# EAGLE library part WIFI-WIZFI21X-LIMITED (library Module)
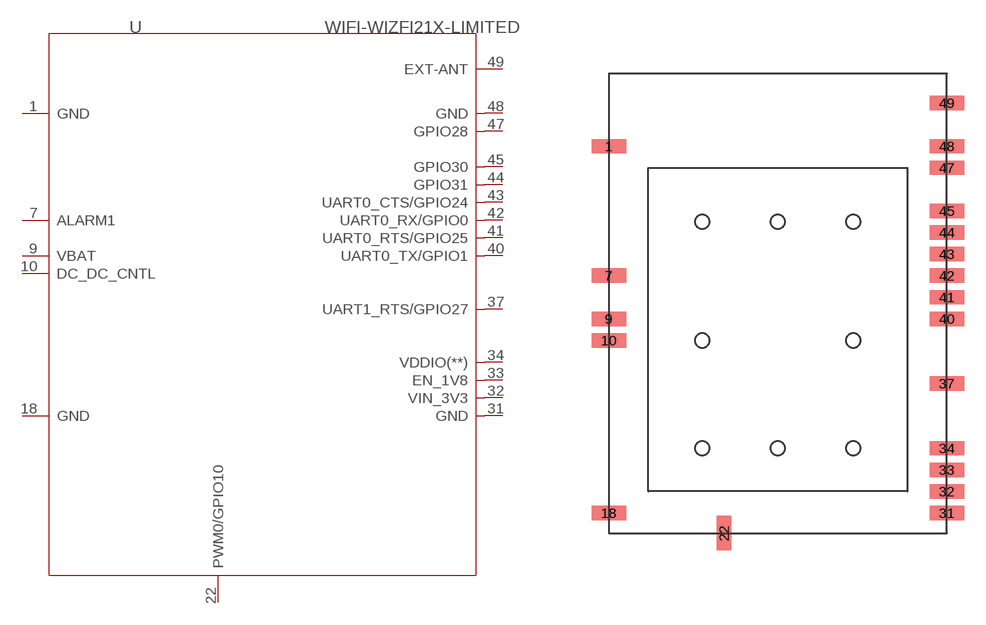
[diagram p18: symbol with the pads of 20P-SMD-32X23.5; footprint 20P-SMD-32X23.5]

Designator prefix U

## WIFI-WIZFI21X-LIMITED-WIXFI210  [20P-SMD-32X23.5]
1  GND  sup
7  ALARM1  in
9  VBAT  sup
10  DC_DC_CNTL  out
18  GND  sup
22  PWM0/GPIO10  out
31  GND  sup
32  VIN_3V3  sup
33  EN_1V8  in
34  VDDIO(**)  sup
37  UART1_RTS/GPIO27  out
40  UART0_TX/GPIO1  out
41  UART0_RTS/GPIO25  out
42  UART0_RX/GPIO0  in
43  UART0_CTS/GPIO24  in
44  GPIO31
45  GPIO30
47  GPIO28
48  GND  sup
49  EXT-ANT

## Footprint 20P-SMD-32X23.5 (pad centres in mm)
smd 2.4 x 1: 1 -11.75,13.5; 7 -11.75,4.5; 9 -11.75,1.5; 10 -11.75,0; 18 -11.75,-12; 31 11.75,-12; 32 11.75,-10.5; 33 11.75,-9; 34 11.75,-7.5; 37 11.75,-3; 40 11.75,1.5; 41 11.75,3; 42 11.75,4.5; 43 11.75,6; 44 11.75,7.5; 45 11.75,9; 47 11.75,12; 48 11.75,13.5; 49 11.75,16.5
smd 1 x 2.4: 22 -3.75,-13.4